# Altium footprint library all_kalex_Library.PcbLib: 234 footprints (part 13 of 15)
Each footprint in its own frame and in the unit in brackets; x right, y up, seen from the top. Pads: shape width x height; smd on the part's side, far side on the other; paste and mask are expansions set on the pad; w line width, h text height; cw(c..) or ccw(c..) is an arc to the next point about the centre after c.
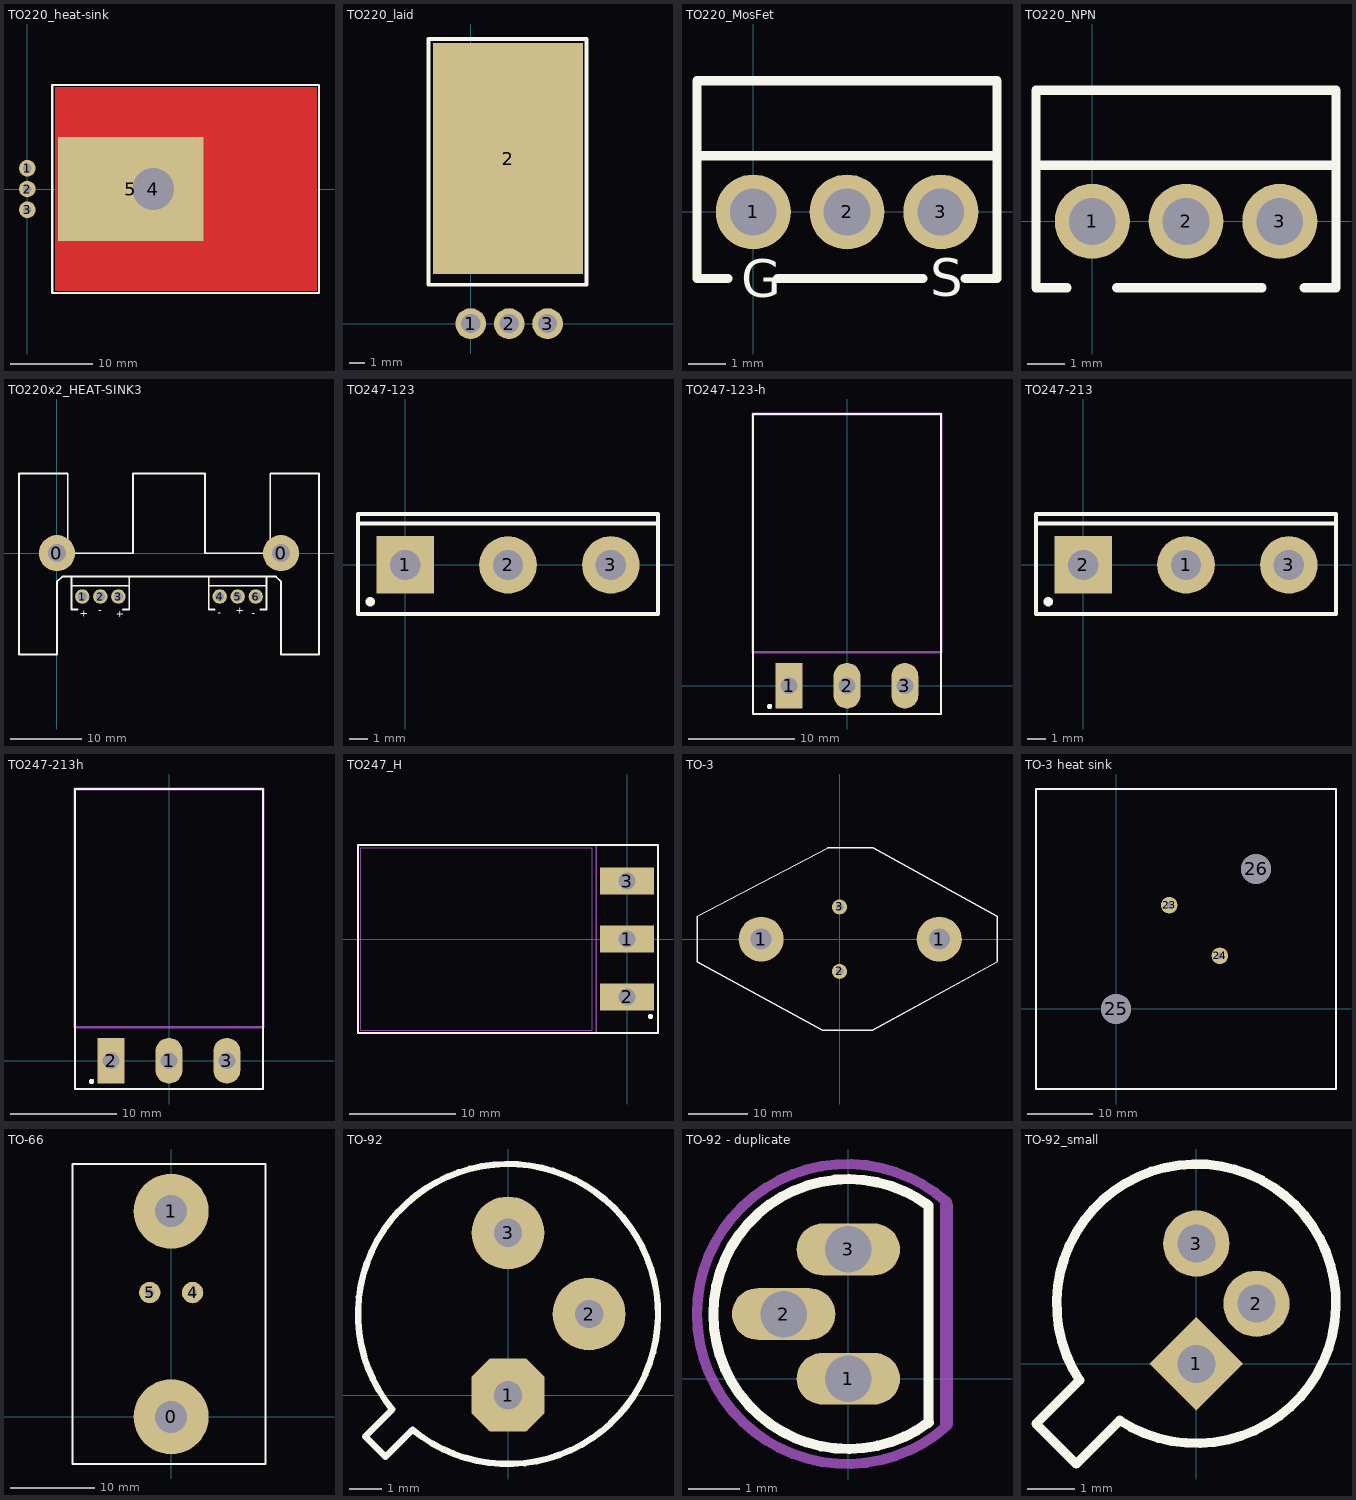
[diagram p12: the footprints below, top view; thin cyan lines are the x and y axes]

## TO220_heat-sink [mil]
pads (5):
  round 80 hole 40: 1(0,100) 2(0,0) 3(0,-100)
  rect 300x300 hole 200: 4(605,0)
  rect 700x500 smd: 5(497,0)
Top Layer:
  rectangle: 133,-490 1393,490
Top Overlay:
  lines w10: 120,-500 1403,-500 1403,500 120,500 120,-500

## TO220_laid [mil]
pads (4):
  round 80 hole 50: 1(0,0) 2(100,0) 3(200,0)
  rect 390x600 smd: 2(97,429)
Top Overlay:
  lines w10: -110,101 301,101 301,740 -110,740 -110,106

## TO220_MosFet [mil]
pads (3):
  round 80 hole 50: 1(0,0) 2(100,0) 3(200,0)
Top Overlay:
  lines w10: -60,60 260,60 ; -27,-71 -60,-71 -60,140 260,140 260,-71 226,-71 ; 26,-71 181,-71
  text "G" at -13,-91 h40
  text "S" at 189,-90 h40

## TO220_NPN [mil]
pads (3):
  round 80 hole 50: 1(0,0) 2(100,0) 3(200,0)
Top Overlay:
  lines w10: -60,60 260,60 ; -27,-71 -60,-71 -60,140 260,140 260,-71 226,-71 ; 26,-71 181,-71

## TO220x2_HEAT-SINK3 [mil]
pads (8):
  round 200 hole 100: 0(0,0) 0(1240,0)
  round 80 hole 50: 1(140,-240) 2(240,-240) 3(340,-240) 4(900,-240) 5(1000,-240) 6(1100,-240)
Top Overlay:
  lines w10: 80,-180 400,-180 ; 80,-130 80,-311 113,-311 ; 366,-311 400,-311 400,-130 ; 840,-180 1160,-180 ; 873,-311 840,-311 840,-130 ; 1126,-311 1160,-311 1160,-130 ; 1147,-130 1212,-130 1240,-158 1240,-560 1450,-560 1450,440 1180,440 1180,0 820,0 820,440 420,440 420,0 60,0 60,440 -210,440 -210,-560 0,-560 0,-159 29,-130 81,-130 400,-130 ; 1160,-133 1157,-130 840,-130 ; 400,-130 840,-130
  text "-" at 1078,-352 h40
  text "-" at 891,-350 h40
  text "+" at 325,-354 h40
  text "+" at 127,-352 h40
  text "+" at 988,-334 h40
  text "-" at 229,-335 h40

## TO247-123 [mil] "TO247"
pads (3):
  rect 120x120 hole 62.99: 1(0,0)
  round 120 hole 62.99: 2(214.57,0) 3(429.13,0)
Top Overlay:
  circle w9.84: c-72.83,-76.77 r4.92
  lines w7.87: -98.43,86.61 527.56,86.61 ; -98.43,-102.36 527.56,-102.36 527.56,106.3 -98.43,106.3 -98.43,-102.36
Mechanical 13:
  lines w3.94: -98.43,-102.36 527.56,-102.36 527.56,106.3 -98.43,106.3 -98.43,-102.36
Mechanical 15:
  lines w3.94: 194.88,0 234.25,0 ; 214.57,-19.69 214.57,19.68

## TO247-123-h [mil] "TO247"
pads (3):
  rect 100x170 hole 62.99: 1(-215,0)
  oval 100x170 hole 62.99: 2(0,0) 3(215,0)
Top Overlay:
  circle w9.84: c-287.83,-76.77 r4.92
  lines w7.87: 350,-105 -350,-105 -350,1010 350,1010 350,-102.36
Mechanical 1:
  lines w10: -350,125 -350,1010 350,1010 350,125 -350,125
Mechanical 13:
  lines w3.94: -350,-105 350,-105 350,1010 -350,1010 -350,-105
Mechanical 15:
  lines w3.94: -20.12,0 19.25,0 ; -0.43,-19.69 -0.43,19.68

## TO247-213 [mil] "TO247"
pads (3):
  round 120 hole 62.99: 1(214.57,0) 3(429.13,0)
  rect 120x120 hole 62.99: 2(0,0)
Top Overlay:
  circle w9.84: c-72.83,-76.77 r4.92
  lines w7.87: -98.43,86.61 527.56,86.61 ; -98.43,-102.36 527.56,-102.36 527.56,106.3 -98.43,106.3 -98.43,-102.36
Mechanical 13:
  lines w3.94: -98.43,-102.36 527.56,-102.36 527.56,106.3 -98.43,106.3 -98.43,-102.36
Mechanical 15:
  lines w3.94: 194.88,0 234.25,0 ; 214.57,-19.69 214.57,19.68

## TO247-213h [mil] "TO247"
pads (3):
  oval 100x170 hole 62.99: 1(0,0) 3(215,0)
  rect 100x170 hole 62.99: 2(-215,0)
Top Overlay:
  circle w9.84: c-287.83,-76.77 r4.92
  lines w7.87: 350,-105 -350,-105 -350,1010 350,1010 350,-102.36
Mechanical 1:
  lines w10: -350,125 -350,1010 350,1010 350,125 -350,125
Mechanical 13:
  lines w3.94: -350,-105 350,-105 350,1010 -350,1010 -350,-105
Mechanical 15:
  lines w3.94: -20.12,0 19.25,0 ; -0.43,-19.69 -0.43,19.68

## TO247_H [mm]
height 5.08
pads (3):
  rect 5.08x2.54 hole 1.6: 1(0,0) 2(0,-5.461) 3(0,5.461)
Top Overlay:
  circle w0.25: c2.204,-7.311 r0.125
  lines w0.2: 2.854,8.89 -25.4,8.89 -25.4,-8.89 2.921,-8.89 2.921,8.89
Mechanical 1:
  lines w0.102: -25.146,-8.636 -3.302,-8.636 -3.302,8.636 -25.146,8.636 -25.146,-8.636
Mechanical 13:
  lines w0.1: -25.4,-8.89 -25.4,8.89 2.921,8.89 2.921,-8.89 -25.4,-8.89
  lines w0.127: -2.921,-8.89 -2.921,8.89
Mechanical 15:
  lines w0.1: -0.5,-0.011 0.5,-0.011 ; 0,-0.511 0,0.489

## TO-3 [mil]
pads (4):
  round 300 hole 140: 1(-522,0) 1(665,0)
  round 100 hole 50: 2(0,-215) 3(0,215)
Top Overlay:
  lines w10: -950,-150 -950,151 -78,608 224,610 1050,152 1050,-152 221,-608 -114,-608 -950,-150

## TO-3 heat sink [mil]
pads (4):
  round 100 hole 40 unplated: 23(318.2,622.25) 24(622.25,318.2)
  round 180 hole 180 unplated: 25(0,0) 26(839.34,839.34)
Top Overlay:
  lines w10: -480.13,-480.13 1318.75,-480.13 1318.75,1318.75 -480.13,1318.75 -480.13,-480.13

## TO-66 [mil] "Transistor"
pads (4):
  round 350 hole 150: 0(0,0) 1(0,960)
  round 100 hole 40: 4(100,580) 5(-100,580)
Top Overlay:
  lines w10: -460,-220 -460,1180 440,1180 440,-220 -460,-220

## TO-92 [mil]
pads (3):
  oct 90x90 hole 35: 1(0,0)
  round 90 hole 35: 2(100,100) 3(0,200)
Top Overlay:
  lines w7.87: -176.18,-51.12 -151.12,-76.18 -117.71,-42.77 ccw(c0,100) -142.77,-17.71 -176.18,-51.12

## TO-92 - duplicate [mil]
pads (3):
  oval 80x40 hole 36: 1(0,0) 2(-50,50) 3(0,100)
Top Overlay:
  lines w7.87: 61.96,133.94 ccw(c0,50) 62.12,-33.82 ; 62,-34 62,134
Mechanical 15:
  lines w7.87: 76.32,136.47 ccw(c-1.02,50.04) 76.4,-36.33
  lines w10: 76,-35 76,134

## TO-92_small [mm]
pads (3):
  rect 1.4x1.4 hole 0.8 rot 135: 1(0,0)
  round 1.4 hole 0.8: 2(1.27,1.27) 3(0,2.54)
Top Overlay:
  lines w0.2: -3.386,-1.267 -2.537,-2.116 -1.618,-1.197 ccw(c0,1.27) -2.467,-0.348 -3.386,-1.267